# Altium schematic symbol library 1602A.SchLib: 13 symbols
Pins are listed as number, name and electrical type; pins without a type are passive.

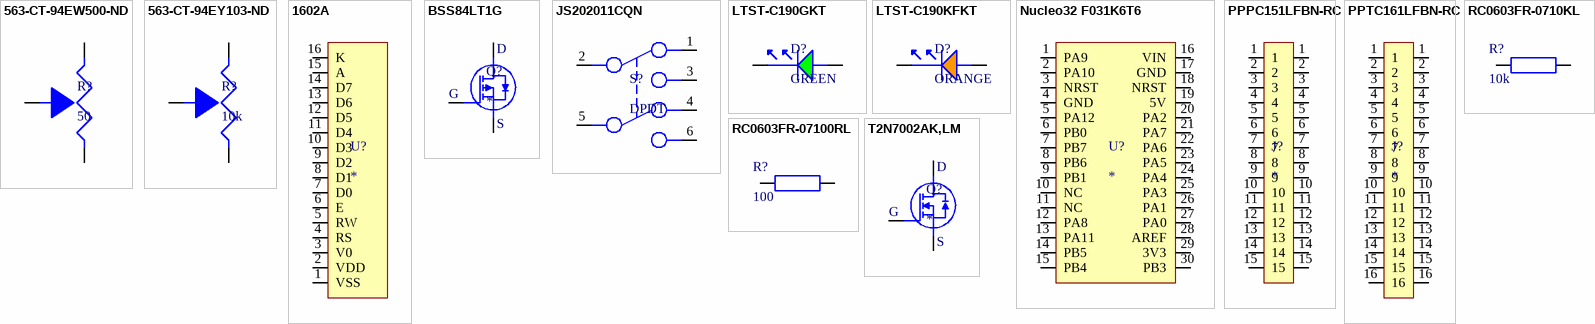
[diagram p0: symbols 563-CT-94EW500-ND to T2N7002AK,LM]

## 563-CT-94EW500-ND
designator R?, comment 50
50 Ohms 0.5W, 1/2W PC Pins Through Hole Trimmer Potentiometer Cermet 18.0 Turn Top Adjustment; Manufacturer: Nidec Components Corporation; Manufacturer Part Number: CT-94EW500; ComponentLink1Description: Digikey; ComponentLink1URL: https://www.digikey.ca/en/products/detail/nidec-components-corporation/CT-94EW500/738415; Supplier: Digikey; Supplier Part Number: 563-CT-94EW500-ND
footprint 563-CT-94EW500-ND
pins: 1, 2, 3

## 563-CT-94EY103-ND
designator R?, comment 10k
10 kOhms 0.5W, 1/2W PC Pins Through Hole Trimmer Potentiometer Cermet 18.0 Turn Top Adjustment; Manufacturer: Nidec Components Corporation; Manufacturer Part Number: CT-94EY103; ComponentLink1Description: Digikey; ComponentLink1URL: https://www.digikey.ca/en/products/detail/nidec-components-corporation/CT-94EW500/738415; Supplier: Digikey; Supplier Part Number: 563-CT-94EY103-ND
footprint 563-CT-94EW500-ND
pins: 1, 2, 3

## 1602A
designator U?
footprint 1602A
pins: 1 VSS, 2 VDD, 3 V0, 4 RS, 5 RW, 6 E, 7 D0, 8 D1, 9 D2, 10 D3, 11 D4, 12 D5, 13 D6, 14 D7, 15 A, 16 K

## BSS84LT1G
designator Q?
P-Channel 50 V 130mA (Ta) 225mW (Ta) Surface Mount SOT-23-3 (TO-236); Manufacturer: onsemi; Manufacturer Part Number: BSS84LT1G; ComponentLink1Description: Digikey; ComponentLink1URL: https://www.digikey.ca/en/products/detail/toshiba-semiconductor-and-storage/T2N7002AK-LM/5298028; Supplier: Digikey; Supplier Part Number: BSS84LT1GOSTR-ND
footprint BSS84LT1G
pins: 1, 2, 3
text: D; G; S

## JS202011CQN
designator S?, comment DPDT
SWITCH SLIDE DPDT 300MA 6V; Manufacturer: C&K; Manufacturer Part Number: JS202011CQN; ComponentLink1Description: Digikey; ComponentLink1URL: https://www.digikey.ca/en/products/detail/c-k/JS202011CQN/1640097; Supplier: Digikey; Supplier Part Number: 401-2001-ND
footprint JS202011CQN
pins: 1, 2, 3, 4, 5, 6

## LTST-C190GKT
designator D?, comment GREEN
Green 569nm LED Indication - Discrete 2.1V 0603 (1608 Metric); Manufacturer: Lite-On Inc.; Manufacturer Part Number: LTST-C190GKT; ComponentLink1Description: Digikey; ComponentLink1URL: https://www.digikey.ca/en/products/detail/liteon/LTST-C190GKT/269230; Supplier: Digikey; Supplier Part Number: 160-1183-1-ND
footprint LTST-C190GKT
pins: 1, 2

## LTST-C190KFKT
designator D?, comment ORANGE
Orange 605nm LED Indication - Discrete 2V 0603 (1608 Metric); Manufacturer: Visual Communications Company - VCC; Manufacturer Part Number: LTST-C190KFKT; ComponentLink1Description: Digikey; ComponentLink1URL: https://www.digikey.ca/en/products/detail/liteon/LTST-C190KFKT/386813; Supplier: Digikey; Supplier Part Number: 160-1434-1-ND
footprint LTST-C190KFKT
pins: 1, 2

## Nucleo32 F031K6T6
designator U?
ComponentLink1Description: Digikey; ComponentLink1URL: https://www.digikey.com/en/products/detail/stmicroelectronics/NUCLEO-F031K6/5428803
footprint Nucleo32 F031K6T6
pins: 1 PA9, 2 PA10, 3 NRST, 4 GND, 5 PA12, 6 PB0, 7 PB7, 8 PB6, 9 PB1, 10 NC, 11 NC, 12 PA8, 13 PA11, 14 PB5, 15 PB4, 16 VIN, 17 GND, 18 NRST, 19 5V, 20 PA2, 21 PA7, 22 PA6, 23 PA5, 24 PA4, 25 PA3, 26 PA1, 27 PA0, 28 AREF, 29 3V3, 30 PB3

## PPPC151LFBN-RC
designator J?
15 Position Header Connector 0.100" (2.54mm) Through Hole Gold; Manufacturer: Sullins Connector Solutions; Manufacturer Part Number: PPPC151LFBN-RC; ComponentLink1Description: Digikey; ComponentLink1URL: https://www.digikey.ca/en/products/detail/sullins-connector-solutions/PPPC151LFBN-RC/810187; Supplier: Digikey; Supplier Part Number: S7048-ND
footprint PPPC151LFBN-RC
pins: 1, 1, 2, 2, 3, 3, 4, 4, 5, 5, 6, 6, 7, 7, 8, 8, 9, 9, 10, 10, 11, 11, 12, 12, 13, 13, 14, 14, 15, 15

## PPTC161LFBN-RC
designator J?
16 Position Header Connector 0.100" (2.54mm) Through Hole Tin; Manufacturer: Sullins Connector Solutions; Manufacturer Part Number: PPTC161LFBN-RC; ComponentLink1Description: Digikey; ComponentLink1URL: https://www.digikey.ca/en/products/detail/sullins-connector-solutions/PPPC161LFBN-RC/810154; Supplier: Digikey; Supplier Part Number: S7014-ND
footprint PPTC161LFBN-RC
pins: 1, 1, 2, 2, 3, 3, 4, 4, 5, 5, 6, 6, 7, 7, 8, 8, 9, 9, 10, 10, 11, 11, 12, 12, 13, 13, 14, 14, 15, 15, 16, 16

## RC0603FR-0710KL
designator R?, comment 10k
10 kOhms ±1% 0.1W, 1/10W Chip Resistor 0603 (1608 Metric) Moisture Resistant Thick Film; Manufacturer: YAGEO; Manufacturer Part Number: RC0603FR-0710KL; Supplier: Digikey; Supplier Part Number: 311-10.0KHRTR-ND
footprint RC0603FR-07100RL
pins: 1, 2

## RC0603FR-07100RL
designator R?, comment 100
100 Ohms ±1% 0.1W, 1/10W Chip Resistor 0603 (1608 Metric) Moisture Resistant Thick Film; Manufacturer: YAGEO; Manufacturer Part Number: RC0603FR-07100RL; Supplier: Digikey; Supplier Part Number: 311-100HRCT-ND
footprint RC0603FR-07100RL
pins: 1, 2

## T2N7002AK,LM
designator Q?
N-Channel 60 V 200mA (Ta) 320mW (Ta) Surface Mount SOT-23-3; Manufacturer: Toshiba Semiconductor and Storage; Manufacturer Part Number: T2N7002AK,LM; ComponentLink1Description: Digikey; ComponentLink1URL: https://www.digikey.ca/en/products/detail/toshiba-semiconductor-and-storage/T2N7002AK-LM/5298028; Supplier: Digikey; Supplier Part Number: T2N7002AKLMCT-ND
footprint T2N7002AK,LM
pins: 1, 2, 3
text: D; G; S